# Altium footprint library DFN-6.PcbLib: 1 footprints
Each footprint in its own frame and in the unit in brackets; x right, y up, seen from the top. Pads: shape width x height; smd on the part's side, far side on the other; paste and mask are expansions set on the pad; w line width, h text height; cw(c..) or ccw(c..) is an arc to the next point about the centre after c.
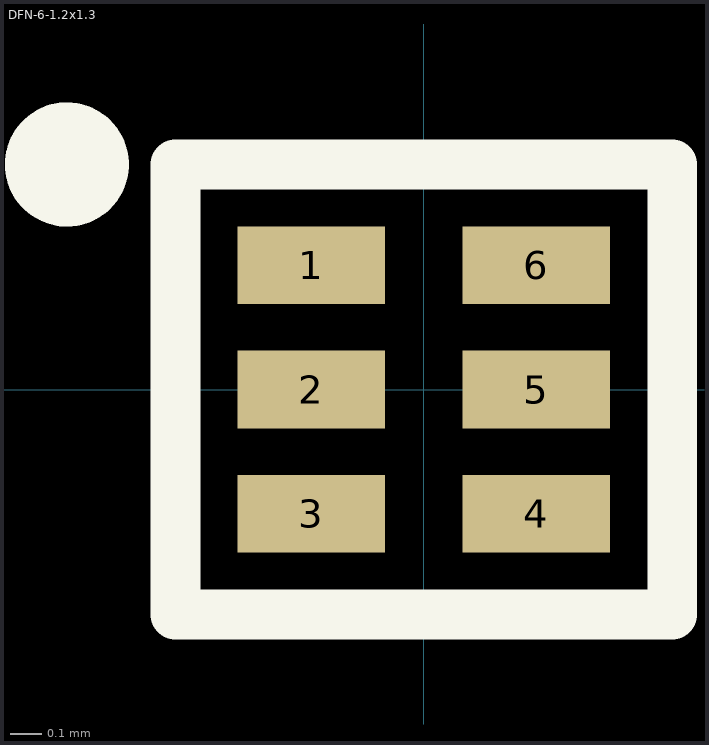
[diagram p0: the footprint, top view; thin cyan lines are the x and y axes]

## DFN-6-1.2x1.3 [mm]
pads (6):
  rect 0.475x0.25 smd mask+0.08: 1(-0.362,0.4) 2(-0.362,0) 3(-0.362,-0.4) 4(0.363,-0.4) 5(0.363,0) 6(0.363,0.4)
Top Overlay:
  circle w0.2: c-1.15,0.725 r0.1
  lines w0.16: -0.8,-0.725 -0.8,0.725 0.8,0.725 0.8,-0.725 -0.8,-0.725
3D body: height 0.38, standoff 0, extent -0.65,-0.6 0.65,0.6